# EAGLE library part 749012011 (library Wurth Electronics Midcom Inc V1-0)
Package Style: 10/100, 1 Port, STR, PoE+ Mounting: SMD Pins: 12 pins Header: 250-0870 Best pinouts for production vary per application. Please contact Wurth Electronics Midcom, Inc. for assistance with your custom design. Datasheet: 749012011 <http://katalog.we-online.de/kataloge/eisos/media/pdf/749012011.pdf> Website: Wurth Electronics Midcom <http://www.we-online.com/midcom> Contact us Wurth Electronics Midcom, Inc. 121 Airport Dr. Watertown, SD 57201 Phone: (605) 886-4385 Fax: (605) 886-4486 E-Mail: midcom@we-online.com
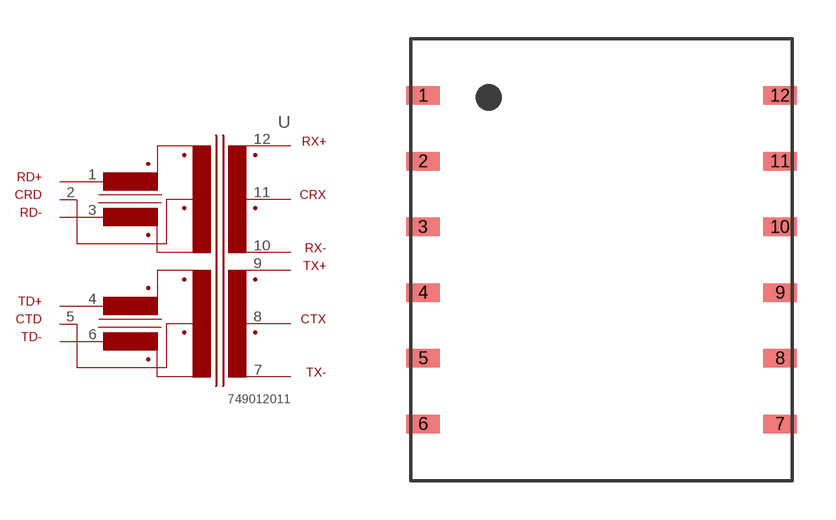
[diagram p198: symbol with the pads of 749012011; footprint 749012011]

Designator prefix -

## 749012011  [749012011]
1  1  pas
2  2  pas
3  3  pas
4  4  pas
5  5  pas
6  6  pas
7  12  pas
8  11  pas
9  10  pas
10  9  pas
11  8  pas
12  7  pas

## Footprint 749012011 (pad centres in mm)
Package Style: 10/100, 1 Port, STR, PoE+ Mounting: SMD Pins: 12
smd 1.295 x 0.711: 1 -6.896,6.35; 2 -6.896,3.81; 3 -6.896,1.27; 4 -6.896,-1.27; 5 -6.896,-3.81; 6 -6.896,-6.35; 7 6.896,-6.35; 8 6.896,-3.81; 9 6.896,-1.27; 10 6.896,1.27; 11 6.896,3.81; 12 6.896,6.35